# Altium footprint library NewInfLib.PcbLib: 4 footprints
Each footprint in its own frame and in the unit in brackets; x right, y up, seen from the top. Pads: shape width x height; smd on the part's side, far side on the other; paste and mask are expansions set on the pad; w line width, h text height; cw(c..) or ccw(c..) is an arc to the next point about the centre after c.
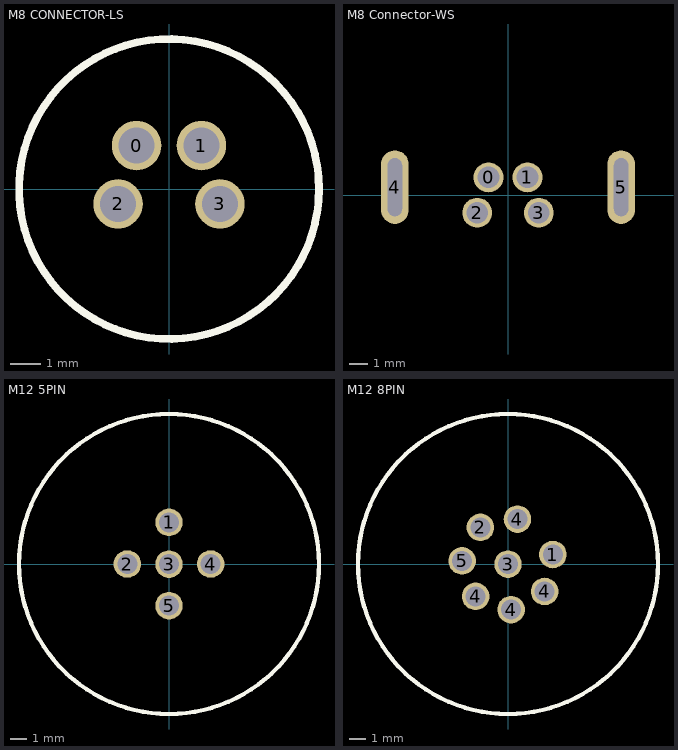
[diagram p0: the footprints below, top view; thin cyan lines are the x and y axes]

## M8 CONNECTOR-LS [mm]
pads (4):
  round 1.65 hole 1.2: 0(-1.08,1.45) 1(1.08,1.45) 2(-1.7,-0.5) 3(1.7,-0.5)
Top Overlay:
  circle w0.254: c0,0 r5
3D body: height 19.1, standoff -2.2, extent 0,0 0,0

## M8 Connector-WS [mm]
height 2
pads (6):
  round 1.65 hole 1.2: 0(-1.075,1) 1(1.075,1) 2(-1.7,-0.95) 3(1.7,-0.95)
  oval 1.524x4.064 hole 0.8 slot 3.2 at 90 deg: 4(-6.25,0.46) 5(6.25,0.46)
3D body "M8Connector.STEP": height 11.3, standoff -4, extent -6.25,-19.345 6.25,1.955

## M12 5PIN [mm]
pads (5):
  round 1.65 hole 1.2: 1(0,2.5) 2(-2.5,0) 3(0,-0.011) 4(2.5,0) 5(0,-2.5)
Top Overlay:
  circle w0.254: c0,0 r9

## M12 8PIN [mm]
pads (8):
  round 1.65 hole 1.2: 1(2.69,0.57) 2(-1.66,2.2) 3(0,-0.011) 4(-1.94,-1.94) 4(0.19,-2.74) 4(0.57,2.69) 4(2.2,-1.65) 5(-2.75,0.19)
Top Overlay:
  circle w0.254: c0,0 r9